# Altium integrated library Micron Memory Parallel NOR Flash.IntLib: 720 symbols (part 50 of 216)
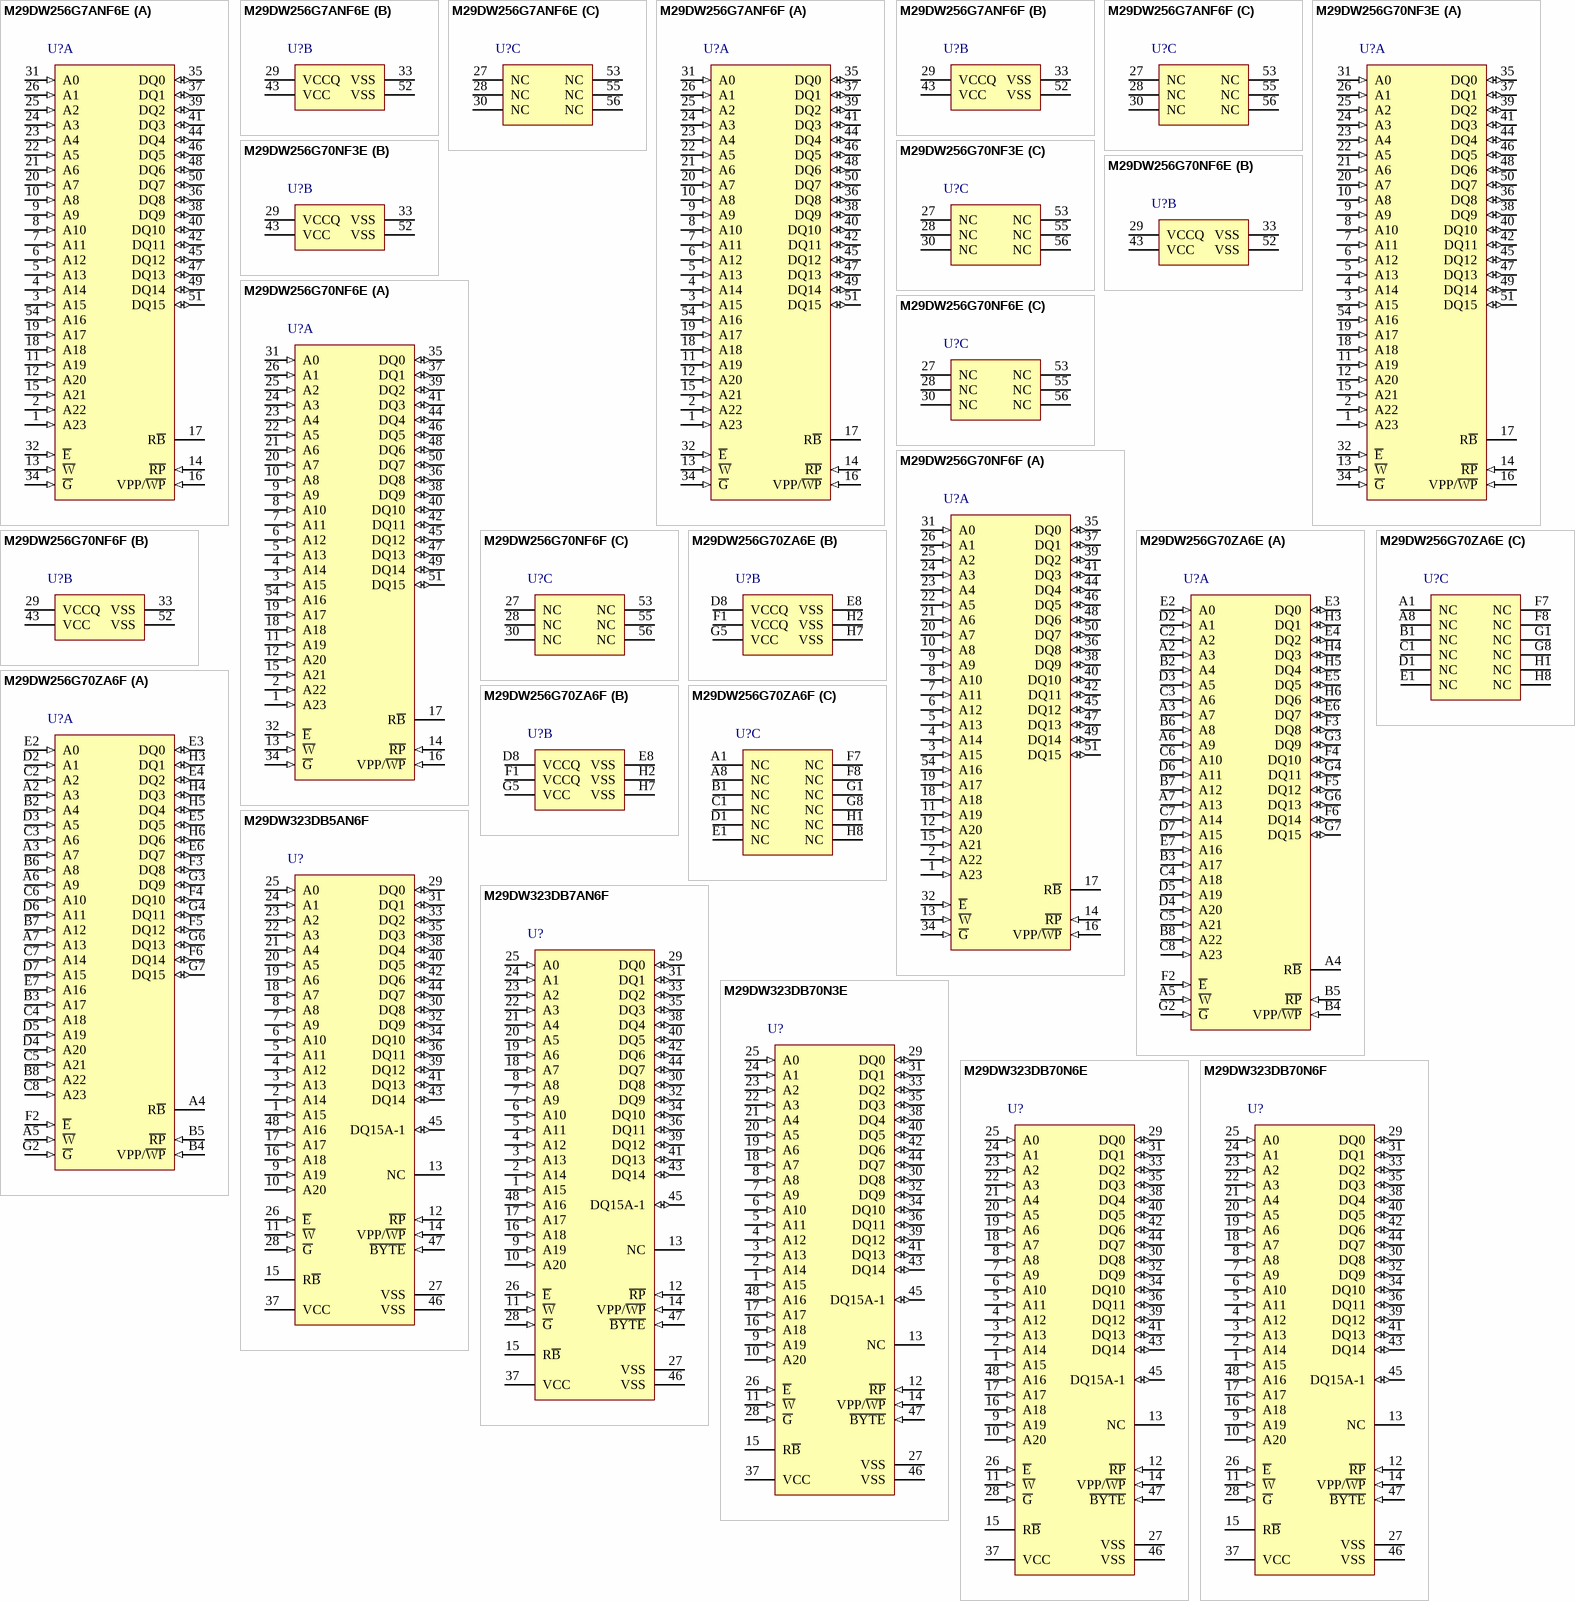
[diagram p202: symbols M29DW256G7ANF6E to M29DW323DB70N6F]

## M29DW256G70ZA6E
designator U?
256 Mb (x16) Parallel NOR Flash Memory, 70 ns, 2.7 to 3.6 V, 64-ball TBGA (ZA), Tray; Part Family: M29DW; Manufacturer: Micron; PartNumber: M29DW256G70ZA6E; Density: 256Mb; Op Temp: -40C to +85C; Speed: 70ns; Voltage: 2.7V-3.6V; DatasheetVersion: Rev. 03; PackageVersion: Rev 3; PackageReference: MICT-ZA-64; PackageDescription: 64-Ball TBGA, 13 X 10 mm, Pitch 1 mm; RoHS: Yes; Width: x16; Mounting Technology: Surface Mount; ComponentLink1Description: Manufacturer URL; ComponentLink1URL: http://www.micron.com/; ComponentLink2Description: Datasheet; ComponentLink2URL: http://www.micron.com/~/media/Documents/Products/Data%20Sheet/NOR%20Flash/Parallel/M29DW/M29DW256G.pdf; ComponentLink3Description: Package Specification; ComponentLink3URL: http://www.micron.com/~/media/Documents/Products/Data%20Sheet/NOR%20Flash/Parallel/M29DW/M29DW127G.pdf
footprint MICT-ZA-64 (BGA, 64-Balls, Body 13x10mm, Pitch 1mm)
part A pins: A2 A3 (in) "The address input select the cells in the memory array to access during bus read operations. During bus write operations they control the commands sent to the command interface of the program/erase controller.", A3 A7 (in) "The address input select the cells in the memory array to access during bus read operations. During bus write operations they control the commands sent to the command interface of the program/erase controller.", A4 R~{B} (hiz) "The ready/busy pin is an open-drain output that can be used to identify when the device is performing a program or erase operation. During program or erase operations ready/busy is Low, VOL (see Table 16: Status register (See Datasheet)", A5 ~{W} (in) "The write enable pin, W\, controls the bus write operation of the memory’s command interface.", A6 A9 (in) "The address input select the cells in the memory array to access during bus read operations. During bus write operations they control the commands sent to the command interface of the program/erase controller.", A7 A13 (in) "The address input select the cells in the memory array to access during bus read operations. During bus write operations they control the commands sent to the command interface of the program/erase controller.", B2 A4 (in) "The address input select the cells in the memory array to access during bus read operations. During bus write operations they control the commands sent to the command interface of the program/erase controller.", B3 A17 (in) "The address input select the cells in the memory array to access during bus read operations. During bus write operations they control the commands sent to the command interface of the program/erase controller.", B4 VPP/~{WP} (in) "The VPP/write protect pin provides two functions. The VPPH function allows the memory to use an external high voltage power supply to reduce the time required for program operations. This is achieved by bypassing the unlock (See Datasheet)", B5 ~{RP} (in) "The reset pin can be used to apply a hardware reset to the memory.A hardware reset is achieved by holding reset Low, VIL, for at least tPLPX. After reset goes High, VIH, the memory will be ready for bus read and bus write (See Datasheet)", B6 A8 (in) "The address input select the cells in the memory array to access during bus read operations. During bus write operations they control the commands sent to the command interface of the program/erase controller.", B7 A12 (in) "The address input select the cells in the memory array to access during bus read operations. During bus write operations they control the commands sent to the command interface of the program/erase controller.", B8 A22 (in) "The address input select the cells in the memory array to access during bus read operations. During bus write operations they control the commands sent to the command interface of the program/erase controller.", C2 A2 (in) "The address input select the cells in the memory array to access during bus read operations. During bus write operations they control the commands sent to the command interface of the program/erase controller.", C3 A6 (in) "The address input select the cells in the memory array to access during bus read operations. During bus write operations they control the commands sent to the command interface of the program/erase controller.", C4 A18 (in) "The address input select the cells in the memory array to access during bus read operations. During bus write operations they control the commands sent to the command interface of the program/erase controller.", C5 A21 (in) "The address input select the cells in the memory array to access during bus read operations. During bus write operations they control the commands sent to the command interface of the program/erase controller.", C6 A10 (in) "The address input select the cells in the memory array to access during bus read operations. During bus write operations they control the commands sent to the command interface of the program/erase controller.", C7 A14 (in) "The address input select the cells in the memory array to access during bus read operations. During bus write operations they control the commands sent to the command interface of the program/erase controller.", C8 A23 (in) "The address input select the cells in the memory array to access during bus read operations. During bus write operations they control the commands sent to the command interface of the program/erase controller.", D2 A1 (in) "The address input select the cells in the memory array to access during bus read operations. During bus write operations they control the commands sent to the command interface of the program/erase controller.", D3 A5 (in) "The address input select the cells in the memory array to access during bus read operations. During bus write operations they control the commands sent to the command interface of the program/erase controller.", D4 A20 (in) "The address input select the cells in the memory array to access during bus read operations. During bus write operations they control the commands sent to the command interface of the program/erase controller.", D5 A19 (in) "The address input select the cells in the memory array to access during bus read operations. During bus write operations they control the commands sent to the command interface of the program/erase controller.", D6 A11 (in) "The address input select the cells in the memory array to access during bus read operations. During bus write operations they control the commands sent to the command interface of the program/erase controller.", D7 A15 (in) "The address input select the cells in the memory array to access during bus read operations. During bus write operations they control the commands sent to the command interface of the program/erase controller.", E2 A0 (in) "The address input select the cells in the memory array to access during bus read operations. During bus write operations they control the commands sent to the command interface of the program/erase controller.", E3 DQ0 (io) "The data I/O output the data stored at the selected address during a bus read operation.During bus write operations they represent the commands sent to the command interface of the internal state machine. During bus write (See Datasheet)", E4 DQ2 (io) "The data I/O output the data stored at the selected address during a bus read operation.During bus write operations they represent the commands sent to the command interface of the internal state machine. During bus write (See Datasheet)", E5 DQ5 (io) "The data I/O output the data stored at the selected address during a bus read operation.During bus write operations they represent the commands sent to the command interface of the internal state machine. During bus write (See Datasheet)", E6 DQ7 (io) "The data I/O output the data stored at the selected address during a bus read operation.During bus write operations they represent the commands sent to the command interface of the internal state machine. During bus write (See Datasheet)", E7 A16 (in) "The address input select the cells in the memory array to access during bus read operations. During bus write operations they control the commands sent to the command interface of the program/erase controller.", F2 ~{E} (in) "The chip enable pin, E\, activates the memory, allowing bus read and bus write operations to be performed. When chip enable is High, VIH, all other pins are ignored.", F3 DQ8 (io) "The data I/O output the data stored at the selected address during a bus read operation.During bus write operations they represent the commands sent to the command interface of the internal state machine. During bus write (See Datasheet)", F4 DQ10 (io) "The data I/O output the data stored at the selected address during a bus read operation.During bus write operations they represent the commands sent to the command interface of the internal state machine. During bus write (See Datasheet)", F5 DQ12 (io) "The data I/O output the data stored at the selected address during a bus read operation.During bus write operations they represent the commands sent to the command interface of the internal state machine. During bus write (See Datasheet)", F6 DQ14 (io) "The data I/O output the data stored at the selected address during a bus read operation.During bus write operations they represent the commands sent to the command interface of the internal state machine. During bus write (See Datasheet)", G2 ~{G} (in) "The output enable pin, G\, controls the bus read operation of the memory.", G3 DQ9 (io) "The data I/O output the data stored at the selected address during a bus read operation.During bus write operations they represent the commands sent to the command interface of the internal state machine. During bus write (See Datasheet)", G4 DQ11 (io) "The data I/O output the data stored at the selected address during a bus read operation.During bus write operations they represent the commands sent to the command interface of the internal state machine. During bus write (See Datasheet)", G6 DQ13 (io) "The data I/O output the data stored at the selected address during a bus read operation.During bus write operations they represent the commands sent to the command interface of the internal state machine. During bus write (See Datasheet)", G7 DQ15 (io) "The data I/O output the data stored at the selected address during a bus read operation.During bus write operations they represent the commands sent to the command interface of the internal state machine. During bus write (See Datasheet)", H3 DQ1 (io) "The data I/O output the data stored at the selected address during a bus read operation.During bus write operations they represent the commands sent to the command interface of the internal state machine. During bus write (See Datasheet)", H4 DQ3 (io) "The data I/O output the data stored at the selected address during a bus read operation.During bus write operations they represent the commands sent to the command interface of the internal state machine. During bus write (See Datasheet)", H5 DQ4 (io) "The data I/O output the data stored at the selected address during a bus read operation.During bus write operations they represent the commands sent to the command interface of the internal state machine. During bus write (See Datasheet)", H6 DQ6 (io) "The data I/O output the data stored at the selected address during a bus read operation.During bus write operations they represent the commands sent to the command interface of the internal state machine. During bus write (See Datasheet)"
part B pins: D8 VCCQ (power) "VCCQ provides the power supply to the I/O pins and enables all outputs to be powered independently from VCC.", E8 VSS (power) "VSS is the reference for all voltage measurements. The device features two VSS pins both of which must be connected to the system ground.", F1 VCCQ (power) "VCCQ provides the power supply to the I/O pins and enables all outputs to be powered independently from VCC.", G5 VCC (power) "VCC provides the power supply for all operations (read, program and erase).The command interface is disabled when the VCC supply voltage is less than the lockout voltage, VLKO. This prevents bus write operations from (See Datasheet)", H2 VSS (power) "VSS is the reference for all voltage measurements. The device features two VSS pins both of which must be connected to the system ground.", H7 VSS (power) "VSS is the reference for all voltage measurements. The device features two VSS pins both of which must be connected to the system ground."
part C pins: A1 NC "Not connected", A8 NC "Not connected", B1 NC "Not connected", C1 NC "Not connected", D1 NC "Not connected", E1 NC "Not connected", F7 NC "Not connected", F8 NC "Not connected", G1 NC "Not connected", G8 NC "Not connected", H1 NC "Not connected", H8 NC "Not connected"